# EAGLE library part 2001-1-2-21-00-BK (library ruark2)
HDMI - Mini Receptacle Connector 19 Position Surface Mount, Right Angle; Through Hole
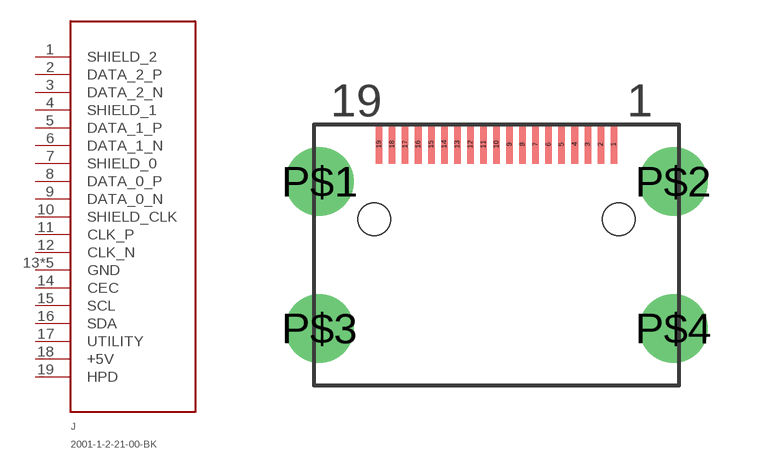
[diagram p86: symbol with the pads of MINI_HDMI; footprint MINI_HDMI]

Designator prefix J

## 2001-1-2-21-00-BK (PARTNO: 1175-1704-1-ND; VALUE: Mini-HDMI)  [MINI_HDMI]
1  SHIELD_2
2  DATA_2_P
3  DATA_2_N
4  SHIELD_1
5  DATA_1_P
6  DATA_1_N
7  SHIELD_0
8  DATA_0_P
9  DATA_0_N
10  SHIELD_CLK
11  CLK_P
12  CLK_N
13  GND
14  CEC
15  SCL
16  SDA
17  UTILITY
18  +5V
19  HPD
P$1  GND
P$2  GND
P$3  GND
P$4  GND

## Footprint MINI_HDMI (pad centres in mm)
smd 0.2 x 1.2: 1 3.6,1.15; 2 3.2,1.15; 3 2.8,1.15; 4 2.4,1.15; 5 2,1.15; 6 1.6,1.15; 7 1.2,1.15; 8 0.8,1.15; 9 0.4,1.15; 10 0,1.15; 11 -0.4,1.15; 12 -0.8,1.15; 13 -1.2,1.15; 14 -1.6,1.15; 15 -2,1.15; 16 -2.4,1.15; 17 -2.8,1.15; 18 -3.2,1.15; 19 -3.6,1.15
drill 1.4: P$1 -5.425,0; P$2 5.425,0; P$3 -5.425,-4.5; P$4 5.425,-4.5
hole 1 at -3.75,-1.15
hole 1 at 3.75,-1.15